# EAGLE library part ATSAM4E*CA-? (library ic-ATMEL)
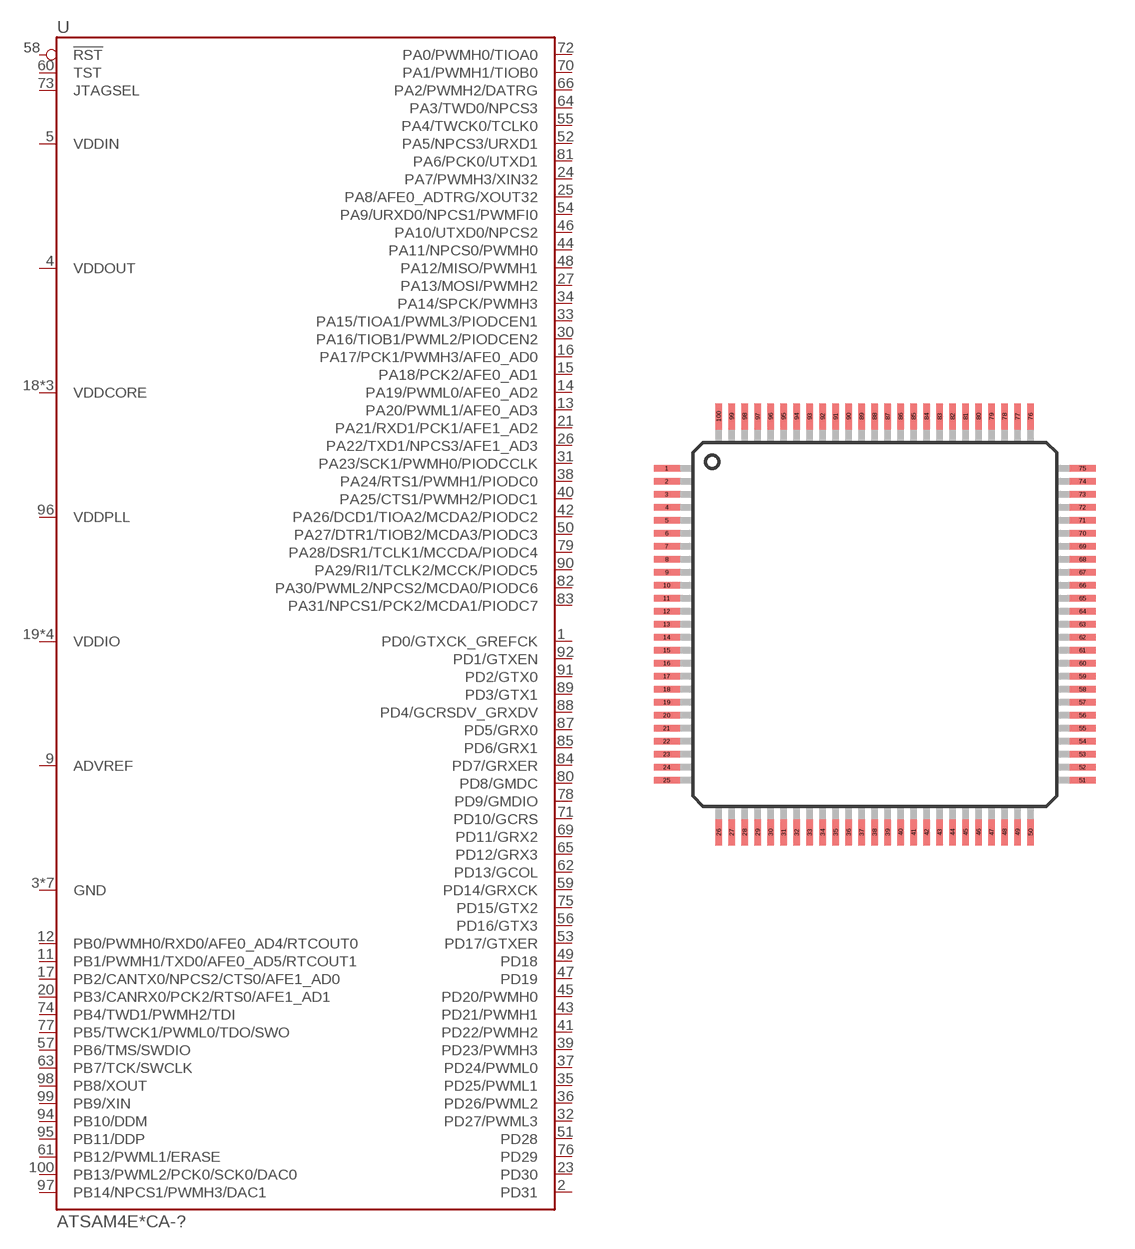
[diagram p17: symbol with the pads of QFP100-0.5; footprint QFP100-0.5]

Designator prefix U

## ATSAM4E16CA-A, ATSAM4E8CA-A  [QFP100-0.5]
1  PD0/GTXCK_GREFCK
2  PD31
3  GND
4  VDDOUT
5  VDDIN
6  GND
7  GND
8  GND
9  ADVREF
10  GND
11  PB1/PWMH1/TXD0/AFE0_AD5/RTCOUT1
12  PB0/PWMH0/RXD0/AFE0_AD4/RTCOUT0
13  PA20/PWML1/AFE0_AD3
14  PA19/PWML0/AFE0_AD2
15  PA18/PCK2/AFE0_AD1
16  PA17/PCK1/PWMH3/AFE0_AD0
17  PB2/CANTX0/NPCS2/CTS0/AFE1_AD0
18  VDDCORE
19  VDDIO
20  PB3/CANRX0/PCK2/RTS0/AFE1_AD1
21  PA21/RXD1/PCK1/AFE1_AD2
22  VDDCORE
23  PD30
24  PA7/PWMH3/XIN32
25  PA8/AFE0_ADTRG/XOUT32
26  PA22/TXD1/NPCS3/AFE1_AD3
27  PA13/MOSI/PWMH2
28  VDDIO
29  GND
30  PA16/TIOB1/PWML2/PIODCEN2
31  PA23/SCK1/PWMH0/PIODCCLK
32  PD27/PWML3
33  PA15/TIOA1/PWML3/PIODCEN1
34  PA14/SPCK/PWMH3
35  PD25/PWML1
36  PD26/PWML2
37  PD24/PWML0
38  PA24/RTS1/PWMH1/PIODC0
39  PD23/PWMH3
40  PA25/CTS1/PWMH2/PIODC1
41  PD22/PWMH2
42  PA26/DCD1/TIOA2/MCDA2/PIODC2
43  PD21/PWMH1
44  PA11/NPCS0/PWMH0
45  PD20/PWMH0
46  PA10/UTXD0/NPCS2
47  PD19
48  PA12/MISO/PWMH1
49  PD18
50  PA27/DTR1/TIOB2/MCDA3/PIODC3
51  PD28
52  PA5/NPCS3/URXD1
53  PD17/GTXER
54  PA9/URXD0/NPCS1/PWMFI0
55  PA4/TWCK0/TCLK0
56  PD16/GTX3
57  PB6/TMS/SWDIO
58  !RST
59  PD14/GRXCK
60  TST
61  PB12/PWML1/ERASE
62  PD13/GCOL
63  PB7/TCK/SWCLK
64  PA3/TWD0/NPCS3
65  PD12/GRX3
66  PA2/PWMH2/DATRG
67  GND
68  VDDIO
69  PD11/GRX2
70  PA1/PWMH1/TIOB0
71  PD10/GCRS
72  PA0/PWMH0/TIOA0
73  JTAGSEL
74  PB4/TWD1/PWMH2/TDI
75  PD15/GTX2
76  PD29
77  PB5/TWCK1/PWML0/TDO/SWO
78  PD9/GMDIO
79  PA28/DSR1/TCLK1/MCCDA/PIODC4
80  PD8/GMDC
81  PA6/PCK0/UTXD1
82  PA30/PWML2/NPCS2/MCDA0/PIODC6
83  PA31/NPCS1/PCK2/MCDA1/PIODC7
84  PD7/GRXER
85  PD6/GRX1
86  VDDCORE
87  PD5/GRX0
88  PD4/GCRSDV_GRXDV
89  PD3/GTX1
90  PA29/RI1/TCLK2/MCCK/PIODC5
91  PD2/GTX0
92  PD1/GTXEN
93  VDDIO
94  PB10/DDM
95  PB11/DDP
96  VDDPLL
97  PB14/NPCS1/PWMH3/DAC1
98  PB8/XOUT
99  PB9/XIN
100  PB13/PWML2/PCK0/SCK0/DAC0

## Footprint QFP100-0.5 (pad centres in mm)
smd 1 x 0.25: 1 -8,6; 2 -8,5.5; 3 -8,5; 4 -8,4.5; 5 -8,4; 6 -8,3.5; 7 -8,3; 8 -8,2.5; 9 -8,2; 10 -8,1.5; 11 -8,1; 12 -8,0.5; 13 -8,0; 14 -8,-0.5; 15 -8,-1; 16 -8,-1.5; 17 -8,-2; 18 -8,-2.5; 19 -8,-3; 20 -8,-3.5; 21 -8,-4; 22 -8,-4.5; 23 -8,-5; 24 -8,-5.5; 25 -8,-6; 51 8,-6; 52 8,-5.5; 53 8,-5; 54 8,-4.5; 55 8,-4; 56 8,-3.5; 57 8,-3; 58 8,-2.5; 59 8,-2; 60 8,-1.5; 61 8,-1; 62 8,-0.5; 63 8,0; 64 8,0.5; 65 8,1; 66 8,1.5; 67 8,2; 68 8,2.5; 69 8,3; 70 8,3.5; 71 8,4; 72 8,4.5; 73 8,5; 74 8,5.5; 75 8,6
smd 0.25 x 1: 26 -6,-8; 27 -5.5,-8; 28 -5,-8; 29 -4.5,-8; 30 -4,-8; 31 -3.5,-8; 32 -3,-8; 33 -2.5,-8; 34 -2,-8; 35 -1.5,-8; 36 -1,-8; 37 -0.5,-8; 38 0,-8; 39 0.5,-8; 40 1,-8; 41 1.5,-8; 42 2,-8; 43 2.5,-8; 44 3,-8; 45 3.5,-8; 46 4,-8; 47 4.5,-8; 48 5,-8; 49 5.5,-8; 50 6,-8; 76 6,8; 77 5.5,8; 78 5,8; 79 4.5,8; 80 4,8; 81 3.5,8; 82 3,8; 83 2.5,8; 84 2,8; 85 1.5,8; 86 1,8; 87 0.5,8; 88 0,8; 89 -0.5,8; 90 -1,8; 91 -1.5,8; 92 -2,8; 93 -2.5,8; 94 -3,8; 95 -3.5,8; 96 -4,8; 97 -4.5,8; 98 -5,8; 99 -5.5,8; 100 -6,8